# EAGLE library part LM393DR2G (library LM393DR2G)
Low Input Offset Current: 5.0 nA; Low Input Offset Voltage: 2.0 mV (max) LM393A 5.0 mV (max) LM293/393; Low Input Bias Current: 25 nA; Wide Single-Supply Range: 2.0 Vdc to 36 Vdc; Output Voltage Compatible with DTL, ECL, TTL, MOS, and CMOS Logic Levels; ESD Clamps on the Inputs Increase the Ruggedness of the Device without Affecting Performance; Input Common Mode Range to Ground Level; Very Low Current Drain Independent of Supply Voltage: 0.4 mA; Split-Supply Range: +/-1.0 Vdc to +/-18 Vdc; Differential Inp Source: Datasheet <https://www.onsemi.com/pub/Collateral/LM393-D.PDF>
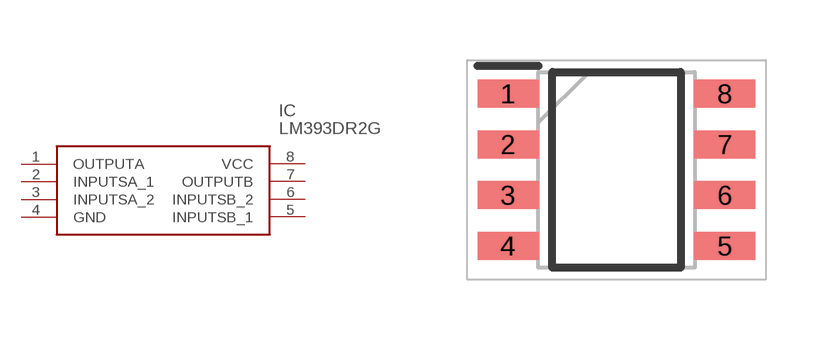
[diagram p0: symbol with the pads of SOIC127P600X175-8N; footprint SOIC127P600X175-8N]

Designator prefix IC

## LM393DR2G (Arrow_Part_Number: LM393DR2G; Arrow_Price-Stock: https://www.arrow.com/en/products/lm393dr2g/on-semiconductor.html?utm_currency=USD&region=europe; Description: Low Input Offset Current: 5.0 nA; Low Input Offset Voltage: 2.0 mV (max) LM393A 5.0 mV (max) LM293/393; Low Input Bias Current: 25 nA; Wide Single-Supply Range: 2.0 Vdc to 36 Vdc; Output Voltage Compatible with DTL, ECL, TTL, MOS, and CMOS Logic Levels; ESD Clamps on the Inputs Increase the Ruggedness of the Device without Affecting Performance; Input Common Mode Range to Ground Level; Very Low Current Drain Independent of Supply Voltage: 0.4 mA; Split-Supply Range: +/-1.0 Vdc to +/-18 Vdc; Differential Inp; Height: 1.75mm; Manufacturer_Name: onsemi; Manufacturer_Part_Number: LM393DR2G; Mouser_Part_Number: 863-LM393DR2G; Mouser_Price-Stock: https://www.mouser.co.uk/ProductDetail/onsemi/LM393DR2G?qs=2OtswVQKCOG5xGitOOiP7w%3D%3D)  [SOIC127P600X175-8N]
1  OUTPUTA
2  INPUTSA_1
3  INPUTSA_2
4  GND
5  INPUTSB_1
6  INPUTSB_2
7  OUTPUTB
8  VCC

## Footprint SOIC127P600X175-8N (pad centres in mm)
LM393DR2G
smd 1.525 x 0.7: 1 -2.712,1.905; 2 -2.712,0.635; 3 -2.712,-0.635; 4 -2.712,-1.905; 5 2.712,-1.905; 6 2.712,-0.635; 7 2.712,0.635; 8 2.712,1.905